# Altium footprint library TO_body.PcbLib: 4 footprints
Each footprint in its own frame and in the unit in brackets; x right, y up, seen from the top. Pads: shape width x height; smd on the part's side, far side on the other; paste and mask are expansions set on the pad; w line width, h text height; cw(c..) or ccw(c..) is an arc to the next point about the centre after c.
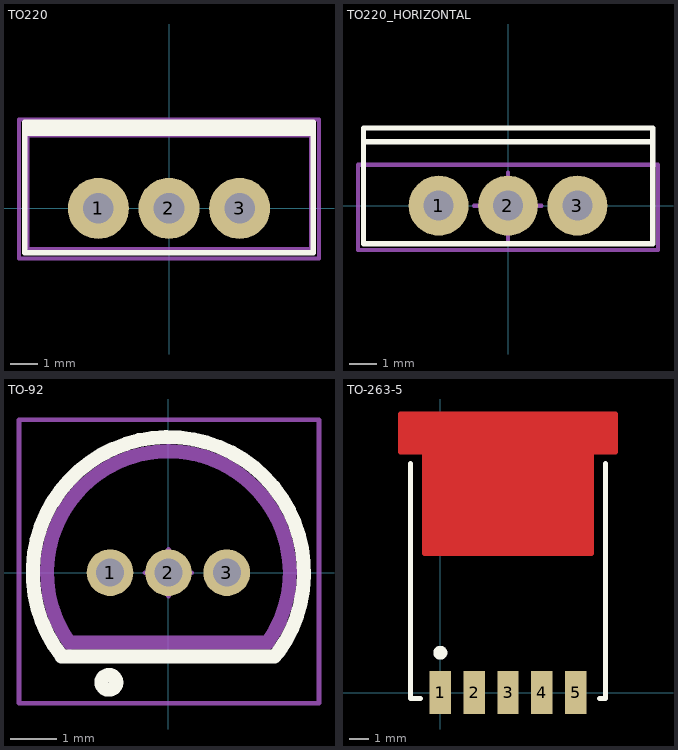
[diagram p0: the footprints below, top view; thin cyan lines are the x and y axes]

## TO220 [mm] "The TO-220 package"
height 25
pads (3):
  round 2.2 hole 1.1: 1(-2.54,0) 2(0,0) 3(2.54,0)
Top Overlay:
  rectangle: -5.2,2.6 5.2,3.1
  lines w0.2: -5.2,-1.6 -5.2,3.1 5.2,3.1 5.2,-1.6 -5.2,-1.6
Mechanical 13:
  lines w0.1: -5.068,2.6 5.092,2.6 ; -5.068,-1.447 5.092,-1.447 5.092,3.125 -5.068,3.125 -5.068,-1.447
Mechanical 15:
  lines w0.05: -0.5,0 0.5,0 ; 0,-0.5 0,0.5
  lines w0.15: -5.4,-1.8 5.4,-1.8 5.4,3.2 -5.4,3.2 -5.4,-1.8
3D body "CircuitWorks-TO-220HS.SLDPRT": height 19.54, standoff -2.81, extent -5.068,-1.447 5.092,3.125

## TO220_HORIZONTAL [mm] "The TO-220 package HORIZONTAL"
height 10
pads (3):
  round 2.2 hole 1.1: 1(-2.54,0) 2(0,0) 3(2.54,0)
Top Overlay:
  lines w0.2: -5.299,2.35 5.301,2.35 ; -5.299,-1.4 -5.299,2.85 5.301,2.85 5.301,-1.4 -5.299,-1.4
Mechanical 15:
  lines w0.15: -1.25,0 1.225,0 ; 0,-1.25 0,1.225 ; -5.5,-1.625 5.5,-1.625 5.5,1.5 -5.5,1.5 -5.5,-1.625
3D body "User Library-TO220-A-H PCB.SLDPRT": height 2.55, standoff -5.58, extent -4.95,-0.313 4.95,19.9

## TO-92 [mm]
pads (3):
  round 1 hole 0.6: 1(-1.25,0) 2(0,0) 3(1.25,0)
Top Overlay:
  circle w0.3: c-1.275,-2.35 r0.158
  lines w0.3: -2.287,-1.791 cw(c0,0) 2.348,-1.71 2.268,-1.791 -2.287,-1.791
Mechanical 13:
  lines w0.3: -2.6,0 cw(c0,0) 2.6,0 ; -2.121,-1.504 cw(c0,0) 2.136,-1.483 ; -2.116,-1.5 2.136,-1.5
Mechanical 15:
  lines w0.1: -0.5,0 0.5,0 ; 0,-0.5 0,0.5 ; -3.2,-2.8 3.225,-2.8 3.225,3.275 -3.2,3.275 -3.2,-2.8
3D body "User Library-TO-92-7.step": height 8.5, standoff -4, extent -2.499,-1.37 2.499,2.5

## TO-263-5 [mm]
pads (5):
  rect 1.07x2.16 smd: 1(0,0) 2(1.7,0) 3(3.4,0) 4(5.1,0) 5(6.8,0)
Top Layer:
  rectangle: -2,12.1 8.8,14
  rectangle: -0.8,7 7.6,12.1
  lines w0.254: -2,12.1 -2,14 3.4,14 8.8,14 8.8,12.1 7.6,12.1 7.6,7 -0.8,7 -0.8,12.1 -2,12.1
Top Overlay:
  circle w0.5: c0,2 r0.1
  lines w0.254: -1.5,11.5 -1.5,-0.3 -1,-0.3 ; 8,-0.3 8.3,-0.3 8.3,11.5
3D body "User Library-TO-263-5.STEP": height 4.56, standoff 0, extent -1.68,-0.327 8.48,13.688